# Altium schematic symbol library IC_Power.SchLib: 57 symbols
Pins are listed as number, name and electrical type; pins without a type are passive.

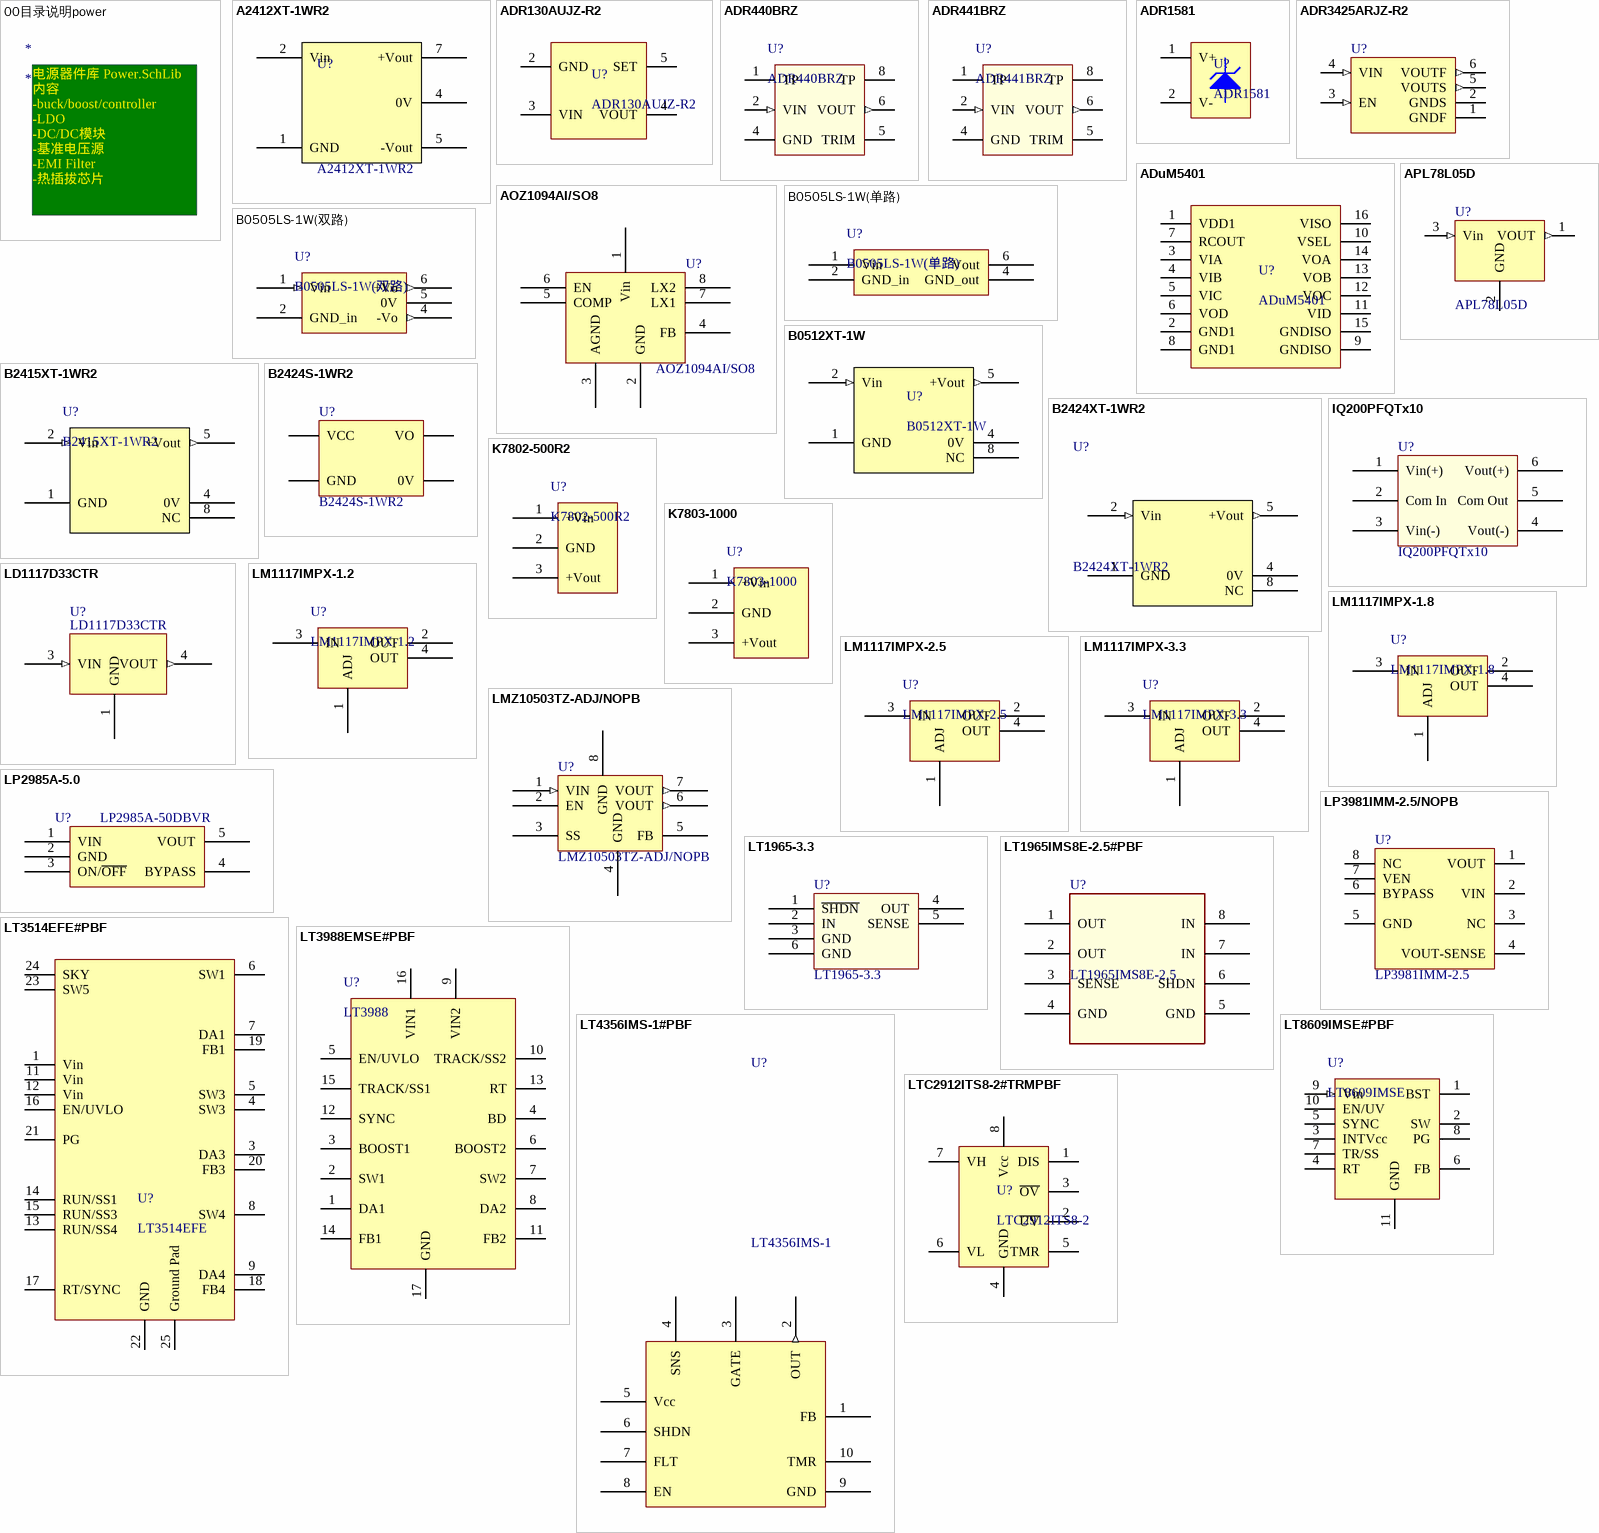
[diagram p0: symbols 00目录说明power to LTC2912ITS8-2#TRMPBF]

## 00目录说明power
designator *
text: 电源器件库 Power.SchLib / 内容 / -buck/boost/controller / -LDO / -DC/DC模块 / -基准电压源 / -EMI Filter / -热插拔芯片 /

## A2412XT-1WR2
designator U?
24V-12VDC/DC, Isolated, UNregulated, 1W; Manufacturer: MORNSUN; Name: DC/DC电源模块; Ordering NO.: A2412XT-1WR2
footprint SPM6/2.54
pins: 1 GND, 2 Vin, 4 0V, 5 -Vout, 7 +Vout

## ADR130AUJZ-R2
designator U?
Precision Series Sub-Band Gap Voltage Reference; Manufacturer: ADI; Name: 基准电压源; Note: 当SET引脚接VOUT引脚时，输出0.5V。当SET引脚接GND引脚时，输出1V; Ordering No.: ADR130AUJZ-R2
footprint SOT23-6 (SOT-23/SC-74A; 5 Leads; Body 3.1 x 3 mm, inc. leads (LxW max))
pins: 2 GND, 3 VIN, 4 VOUT, 5 SET

## ADR440BRZ
designator U?
超低噪声LDO XFET 基准电压源，具有吸电流和源电流能力; Manufacturer: ADI; Name: 基准电压源; Tips: 要求输出电压为2.048V~5V的都可以选择44X系列; Ordering NO.: ADR440BRZ
footprint SO8/1.27_4.9*3.9 (SOIC, 8-Leads, Body 4.9x3.9mm, Pitch 1.27mm,)
pins: 1 TP, 2 VIN (in), 4 GND (power), 5 TRIM, 6 VOUT (out), 8 TP

## ADR441BRZ
designator U?
Ultralow Noise,LDO XFET Voltage Reference with Current Sink and Source; Manufacturer: ADI; Name: 基准电压源; Ordering NO.: ADR441BRZ
footprint SO8/1.27_4.9*3.9 (SOIC, 8-Leads, Body 4.9x3.9mm, Pitch 1.27mm,)
pins: 1 TP, 2 VIN (in), 4 GND (power), 5 TRIM, 6 VOUT (out), 8 TP

## ADR1581
designator U?
1.25V Micropower,Precision Shunt Volatge Refence; Manufacturer: ADI; Name: 基准电压源; Ordering NO.: ADR1581ARTZ-R2; Initial Output Error: 10mV; Temperature Coefficient: 100ppm/℃
footprint SOT23-3 (SOT23, 3-Leads, Body 2.92x1.3mm, Pitch 0.95mm, Lead Span 2.3mm, IPC Medium Density)
pins: 1 V+, 2 V-

## ADR3425ARJZ-R2
designator U?  (value not drawn)
Micropower,High Accuracy Voltage References,Output Voltalge 2.5V; Manufacturer: ADI; Name: 基准电压源; Ordering NO.: ADR3425ARJZ-R2
footprint SOT23-6
pins: 1 GNDF (power), 2 GNDS (power), 3 EN (in), 4 VIN (in), 5 VOUTS (out), 6 VOUTF (out)

## ADuM5401
designator U?
Quad-Channel,2.5KV Isolators with Integrated DC to DC Converter; Manufacturer: ADI; Name: DC/DC电源模块; Ordering No.: ADuM5401ARWZ
footprint SO16/1.27_10.3*7.5 (SOIC_W,16-Pin Wide Body Small Outline Integrated Circuit 1.27 mm Pitch, IPC Medium Density)
pins: 1 VDD1, 2 GND1, 3 VIA, 4 VIB, 5 VIC, 6 VOD, 7 RCOUT, 8 GND1, 9 GNDISO, 10 VSEL, 11 VID, 12 VOC, 13 VOB, 14 VOA, 15 GNDISO, 16 VISO

## AOZ1094AI/SO8
designator U?
DC/DC控制器3.00rmb/1pcs; Manufacturer: AOZ; 物料型号说明: SO8工业级; Name: DC/DC控制器BUCK; Price_Date: 2011-07; Ordering NO.: AOZ1094AI; Price: 2.5
footprint SO8/1.27_4.9*3.9 (SOIC, 8-Leads, Body 4.9x3.9mm, Pitch 1.27mm,)
pins: 1 Vin, 2 GND, 3 AGND, 4 FB, 5 COMP, 6 EN, 7 LX1, 8 LX2

## APL78L05D
designator U?
Three-Terminal Low Current Positive Voltage Regulator, Max Input Voltage:30V, Output Voltage:5V, 100mA; Manufacturer: ANPEC; Name: LDO; Ordering NO.: APL78L05D
footprint SOT89-3 (SOT89(TO-243AA*), 3-Leads, Body 4.5x2.5mm (max), Pitch 1.60mm, Lead Span 4.1mm, IPC Medium Density)
pins: 1 VOUT (out), 2 GND (power), 3 Vin (in)

## B0505LS-1W(单路)
designator U?
隔离DC/DC厚膜IC模块定,1W,定电压输入，隔离非稳压单路输出; Manufacturer: 金升阳; Name: DC/DC电源模块; Price: 8; Ordering NO.: B0505LS-1W
footprint SIP6-4/2.54 (DC隔离模块)
pins: 1 Vin, 2 GND_in, 4 GND_out, 6 Vout

## B0505LS-1W(双路)
designator U?
隔离DC/DC厚膜IC模块定,1W,定电压输入，隔离非稳压正负双路输出; Manufacturer: 金升阳; Name: DC/DC电源模块; Price: 8; Ordering NO.: B0505LS-1W
footprint SIP6-5/2.54 (DC隔离模块，正负双路)
pins: 1 Vin (in), 2 GND_in (power), 4 -Vo (out), 5 0V (power), 6 +Vo (out)

## B0512XT-1W
designator U?
1W,FIXED INPUT:5V, ISOLATED & UNREGULATED  SINGLE OUTPUT:12V, SMD DC-DC CONVERTER; Manufacturer: 金升阳; Name: 升压模块; Ordering NO.: B0512XT-1W
footprint SPM5/2.54
pins: 1 GND (power), 2 Vin (in), 4 0V (power), 5 +Vout (out), 8 NC

## B2415XT-1WR2
designator U?
1W,Fixed input:24V,Isolated&Unregulated single output:15V; Manufacturer: 金升阳; Name: DC-DC电源模块; Ordering NO.: B2415XT-1WR2
footprint SPM5/2.54
pins: 1 GND (power), 2 Vin (in), 4 0V (power), 5 +Vout (out), 8 NC

## B2424S-1WR2
designator U?
1W，小型定电压输入，1500VDC 隔离非稳压  单输出系列DC-DC(24V-24V) 模块电源; Manufacturer: 金升阳; Name: DC/DC电源模块; Ordering NO.: B2424S-1WR2
footprint SIP4/2.54-A
pins: 1 GND, 2 VCC, 3 0V, 4 VO

## B2424XT-1WR2
designator U?
1W, FIXED INPUT:24V, ISOLATED & UNREGULATED  SINGLE OUTPUT:24V; Manufacturer: 金升阳; Name: DC/DC电源模块; Ordering NO.: B2424XT-1WR2
footprint SPM5/2.54
pins: 1 GND (power), 2 Vin (in), 4 0V (power), 5 +Vout (out), 8 NC

## IQ200PFQTx10
designator U?
EMI Filter,-200 to +200V Input,10A Output Current,70mΩ@100℃ Max DC Resistance,>80dB@250kHz Differential Attenuation; Manufacturer: SynQor; Name: EMI Filter; Ordering NO.: IQ200PFQTx10
footprint FLT6_61*39
pins: 1 Vin(+), 2 Com In, 3 Vin(-), 4 Vout(-), 5 Com Out, 6 Vout(+)

## K7802-500R2
designator U?
非隔离稳压DC/DC,24VDC转3.3VDC; Manufacturer: 金升阳; Name: DC/DC(非隔离型); Ordering NO.: K7802-500R2
footprint SIP3/2.54-A (11.6*7.55*10.16mm)
pins: 1 +Vin, 2 GND, 3 +Vout

## K7803-1000
designator U?
非隔离稳压DC/DC,24VDC转3.3VDC; Manufacturer: 金升阳; Name: DC/DC(非隔离型); Ordering NO.: K7803-1000
footprint SIP3/2.54-B
pins: 1 +Vin, 2 GND, 3 +Vout

## LD1117D33CTR
designator U?
Adjustable and Fixed Low Drop Positive Voltage Regulator; Manufacturer: ST; Ordering NO.: LD1117DT33CTR; Name: LDO
footprint TO-252AA
pins: 1 GND (power), 3 VIN (in), 4 VOUT (out)

## LM1117IMPX-1.2
designator U?
LDO,800mA; Manufacturer: NS; 物料说明: LDO,1.8V; 物料型号说明: 贴片LDO 1.8V; 物料替代型号: 国产同型,SP1117-1.8; Price: 0.01; 物料供应商: NS; Ordering NO.: LM1117IMPX-1.2; Name: LDO
footprint SOT223-4 (SOT-223/SC-73; 4 Leads; Body 6.7 x 7.3 mm, inc. leads (LxW max))
pins: 1 ADJ, 2 OUT, 3 IN, 4 OUT

## LM1117IMPX-1.8
designator U?
LDO,800mA; Manufacturer: NS; 物料说明: LDO,1.8V; 物料型号说明: 贴片LDO 1.8V; 物料替代型号: 国产同型,SP1117-1.8; Price: 0.01; 物料供应商: NS; Ordering NO.: LM1117IMPX-1.8; Name: LDO
footprint SOT223-4 (SOT-223/SC-73; 4 Leads; Body 6.7 x 7.3 mm, inc. leads (LxW max))
pins: 1 ADJ, 2 OUT, 3 IN, 4 OUT

## LM1117IMPX-2.5
designator U?
LDO,800mA; Manufacturer: NS; 物料说明: LDO,2.5V; 物料型号说明: 贴片LDO 2.5V; 物料替代型号: 国产同型,SP1117-2.5; Price: 0.01; 物料供应商: NS; Ordering NO.: LM1117IMPX-2.5; Name: LDO
footprint SOT223-4 (SOT-223/SC-73; 4 Leads; Body 6.7 x 7.3 mm, inc. leads (LxW max))
pins: 1 ADJ, 2 OUT, 3 IN, 4 OUT

## LM1117IMPX-3.3
designator U?
LDO,800mA; Manufacturer: NS; 物料说明: LDO,3.3V; 物料型号说明: 贴片LDO 3.3V; 物料替代型号: 国产同型,SP1117-3.3; Price: 0.01; 物料供应商: NS; Name: LDO; Ordering NO.: LM1117IMPX-3.3
footprint SOT223-4 (SOT-223/SC-73; 4 Leads; Body 6.7 x 7.3 mm, inc. leads (LxW max))
pins: 1 ADJ, 2 OUT, 3 IN, 4 OUT

## LMZ10503TZ-ADJ/NOPB
designator U?
LMZ10503 3A SIMPLE SWITCHER? Power Module with 5.5V Maximum Input Voltage; Manufacturer: TI; Name: DC/DC电源模块; Ordering NO.: LMZ10503TZ-ADJ/NOPB
footprint PFM7/1.27 (7-Lead)
pins: 1 VIN (in), 2 EN, 3 SS, 4 GND (power), 5 FB, 6 VOUT (out), 7 VOUT (out), 8 GND (power)

## LP2985A-5.0
designator U?, comment LP2985A-50DBVR
LDO稳压器 5V, 150mA low noise ,low dropout regulator with shutdown; Manufacturer: TI; Name: LDO; Ordering NO.: LP2985A-50DBVR
footprint SOT23-5 (SOT-23/SC-74A; 5 Leads; Body 3 x 3 mm, inc. leads (LxW max))
pins: 1 VIN, 2 GND, 3 ON/~{OFF}, 4 BYPASS, 5 VOUT

## LP3981IMM-2.5/NOPB
designator U?, comment LP3981IMM-2.5
300mA Ultra Low-Dropout CMOS Voltage Regulator; Manufacturer: TI; Ordering NO.: LP3981IMM-2.5/NOPB; Name: LDO
footprint MSOP8/0.65_3*3 (MSOP,8 PIN,Pitch 0.65mm,Body 3mmX3mm)
pins: 1 VOUT, 2 VIN, 3 NC, 4 VOUT-SENSE, 5 GND, 6 BYPASS, 7 VEN, 8 NC

## LT1965-3.3
designator U?
5-3.3V LDO电源模块, 1.1A, Low Noise,  Low Dropout Linear Regulator; Name: LDO; Manufacturer: Linear; Ordering NO.: LT1965-3.3
footprint DD-PAK-5
pins: 1 ~{SHDN}, 2 IN, 3 GND, 4 OUT, 5 SENSE, 6 GND

## LT1965IMS8E-2.5#PBF
designator U?, comment LT1965IMS8E-2.5
输出2.5V LDO电源模块, 1.1A, Low Noise,  Low Dropout Linear Regulator; Name: LDO; Ordering NO.: LT1965IMS8E-2.5#PBF; Manufacturer: Linear
footprint MSOP8/0.65_3*3 (MSOP,8 PIN,Pitch 0.65mm,Body 3mmX3mm)
pins: 1 OUT, 2 OUT, 3 SENSE, 4 GND, 5 GND, 6 SHDN, 7 IN, 8 IN

## LT3514EFE#PBF
designator U?, comment LT3514EFE
Triple Step-Down Switching  Regulator with 100%  Duty Cycle Operation; Manufacturer: Linear; Name: DC/DC(非隔离型); Ordering NO.: LT3514EFE#PBF
footprint TSSOP24/0.65_7.8*4.4-T
pins: 1 Vin, 3 DA3, 4 SW3, 5 SW3, 6 SW1, 7 DA1, 8 SW4, 9 DA4, 11 Vin, 12 Vin, 13 RUN/SS4, 14 RUN/SS1, 15 RUN/SS3, 16 EN/UVLO, 17 RT/SYNC, 18 FB4, 19 FB1, 20 FB3, 21 PG, 22 GND, 23 SW5, 24 SKY, 25 Ground Pad

## LT3988EMSE#PBF
designator U?, comment LT3988
Dual 60V Monolithic 1A  Step-Down Switching  Regulator; Manufacturer: Linear; NAME: DC/DC(非隔离型); Ordering NO.: LT3988EMSE#PBF
footprint MSOP16/0.5_4*3-T (MSOP, 16-Leads,  Exposed Die Pad,Body 4.1x3.1mm (max), Pitch 0.50mm, IPC Medium Density)
pins: 1 DA1, 2 SW1, 3 BOOST1, 4 BD, 5 EN/UVLO, 6 BOOST2, 7 SW2, 8 DA2, 9 VIN2, 10 TRACK/SS2, 11 FB2, 12 SYNC, 13 RT, 14 FB1, 15 TRACK/SS1, 16 VIN1, 17 GND

## LT4356IMS-1#PBF
designator U?, comment LT4356IMS-1
热插拔芯片4v to 80V Overvoltage Protection  Regulator and Inrush Limiter; Manufacturer: Linear; Ordering NO.: LT4356IMS-1#PBF; Name: 热插拔芯片
footprint MSOP10/0.5_3*3 (MSOP,8 PIN,Pitch 0.65mm,Body 4mmX3mm)
pins: 1 FB, 2 OUT (out), 3 GATE, 4 SNS, 5 Vcc (power), 6 SHDN, 7 FLT, 8 EN, 9 GND (power), 10 TMR

## LT8609IMSE#PBF
designator U?, comment LT8609IMSE
42V, 2A Synchronous  Step-Down Regulator with  2.5μA Quiescent Current; Manufacturer: Linear; Ordering NO.: LT8609IMSE#PBF; Name: DC/DC(非隔离型)
footprint MSOP10/0.5_3*3 -T (MSOP,10 PIN,Pitch 0.5mm,Body 3mmX3mm)
pins: 1 BST, 2 SW, 3 INTVcc, 4 RT, 5 SYNC, 6 FB, 7 TR/SS, 8 PG, 9 Vin (in), 10 EN/UV, 11 GND (power)

## LTC2912ITS8-2#TRMPBF
designator U?, comment LTC2912ITS8-2
Single UV/OV  Voltage Monitor; Manufacturer: Linear; Name: 电源监视芯片; Ordering NO.: LTC2912ITS8-2#TRMPBF
footprint SOT23-8 (TSOT-23/SOT-23; 8Leads; Body 1.625 x 2.9mm)
pins: 1 DIS (power), 2 ~{UV}, 3 ~{OV}, 4 GND (power), 5 TMR, 6 VL, 7 VH, 8 Vcc (power)

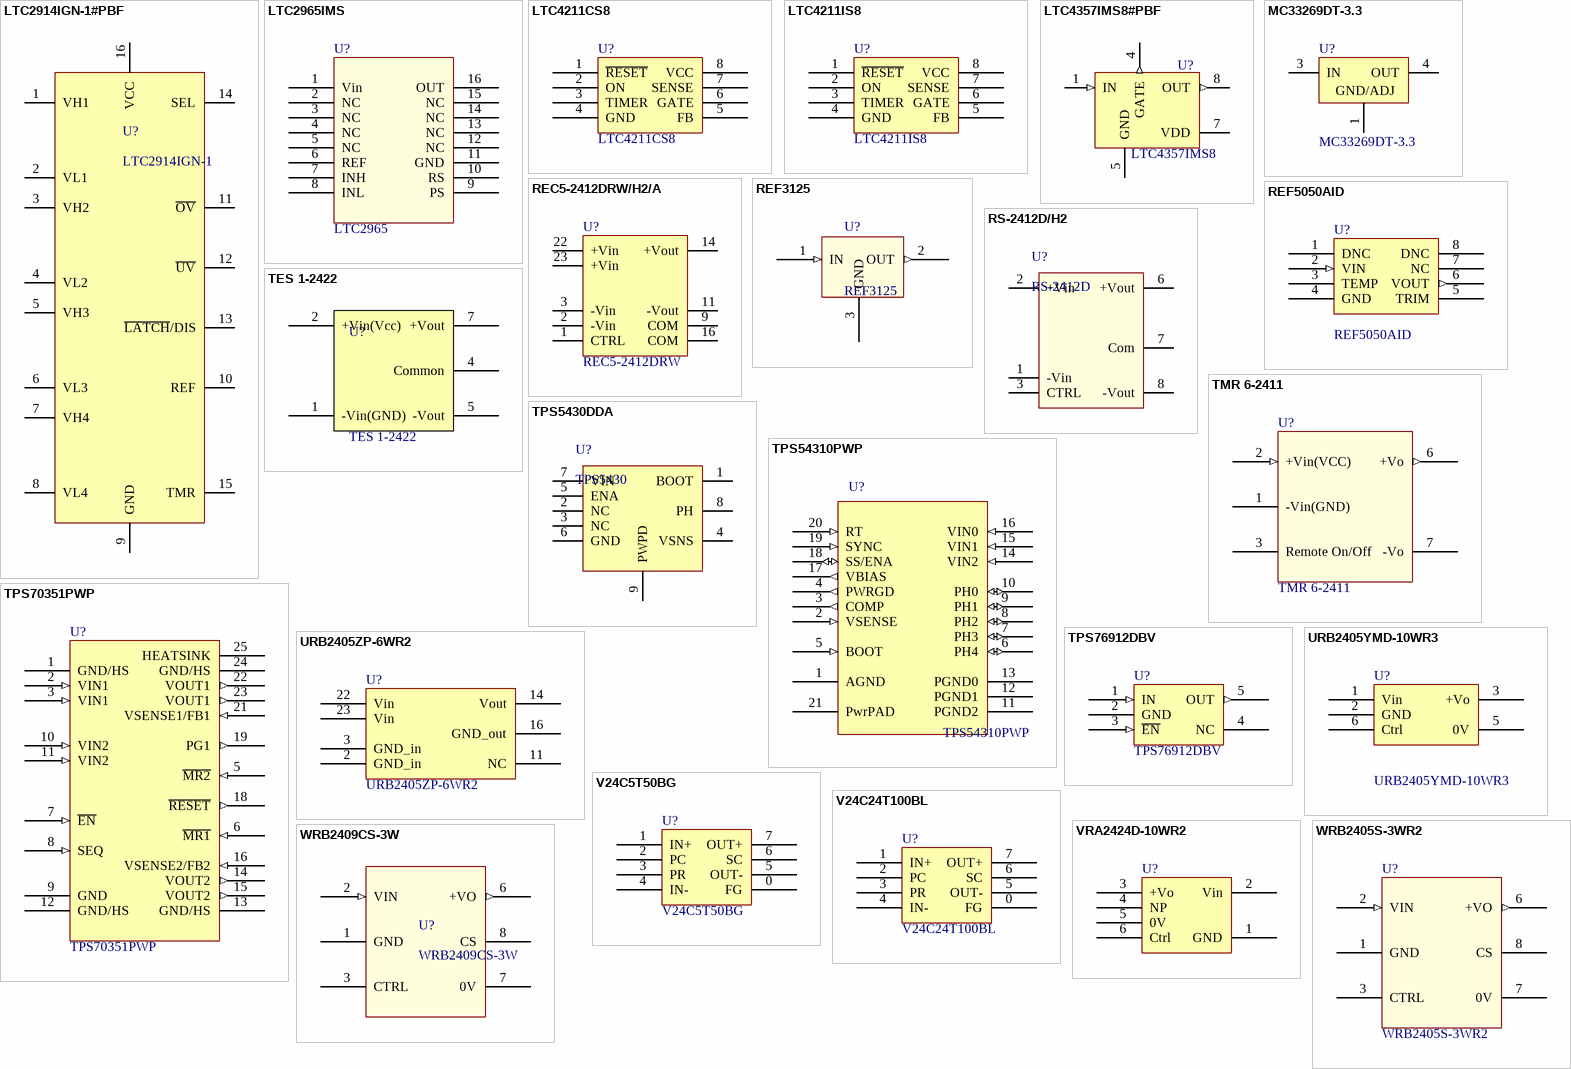
[diagram p1: symbols LTC2914IGN-1#PBF to WRB2409CS-3W]

## LTC2914IGN-1#PBF
designator U?, comment LTC2914IGN-1
Quad UV/OV Positive/Negative Voltage Monitor; Manufacturer: Linear; Name: 电源监视芯片; Ordering NO.: LTC2914IGN-1#PBF
footprint SSOP16/0.635_4.9*3.9 (SSOP; 16 Leads; Body Width 3.9 mm; Pitch 0.635 mm)
pins: 1 VH1, 2 VL1, 3 VH2, 4 VL2, 5 VH3, 6 VL3, 7 VH4, 8 VL4, 9 GND (power), 10 REF, 11 ~{OV}, 12 ~{UV}, 13 ~{LATCH}/DIS, 14 SEL, 15 TMR, 16 VCC (power)

## LTC2965IMS
designator U?, comment LTC2965
100V Micropower Single Voltage Monitor; Manufacturer: Linear; Name: 电源监视芯片; Ordering No.: LTC2965IMS
footprint MSOP16/0.5_4*3 (TSSOP, 16-Leads, Body 4.1x3.1mm (max), Pitch 0.50mm, IPC Medium Density)
pins: 1 Vin, 2 NC, 3 NC, 4 NC, 5 NC, 6 REF, 7 INH, 8 INL, 9 PS, 10 RS, 11 GND, 12 NC, 13 NC, 14 NC, 15 NC, 16 OUT

## LTC4211CS8
designator U?
热插拔控制芯片2.5~16.5v; Manufacturer: Linear; Name: 热插拔芯片; 物料替代型号: LTC4211iS8; 物料型号说明: SO8封装商业及; Price: 35; Ordering NO.: LTC4211CS8
footprint SO8/1.27_4.9*3.9 (SOIC, 8-Leads, Body 4.9x3.9mm, Pitch 1.27mm,)
pins: 1 ~{RESET}, 2 ON, 3 TIMER, 4 GND, 5 FB, 6 GATE, 7 SENSE, 8 VCC

## LTC4211IS8
designator U?
Hot Swap Controller with Multifunction Current Control; Manufacturer: Linear; Name: 热插拔芯片; Ordering NO.: LTC4211IS8
footprint SO8/1.27_4.9*3.9 (SOIC, 8-Leads, Body 4.9x3.9mm, Pitch 1.27mm,)
pins: 1 ~{RESET}, 2 ON, 3 TIMER, 4 GND (power), 5 FB, 6 GATE, 7 SENSE, 8 VCC (power)

## LTC4357IMS8#PBF
designator U?, comment LTC4357IMS8
Positive High Voltage Ideal Diode Controller; Manufacturer: Linear; Ordering NO.: LTC4357IMS8#PBF; Name: 电源管理芯片
footprint MSOP8/0.65_3*3 (MSOP,8 PIN,Pitch 0.65mm,Body 3mmX3mm)
pins: 1 IN (in), 2 NC hidden, 3 NC hidden, 4 GATE (out), 5 GND (power), 6 NC hidden, 7 VDD (power), 8 OUT (out)

## MC33269DT-3.3
designator U?
Low Dropout Positive Fixed Voltage Regulator; Manufacturer: ON; Name: LDO; Ordering NO.: MC33269DT-3.3
footprint SOT223-4 (Footprint not found)
pins: 1 GND/ADJ (power), 3 IN (power), 4 OUT (power)

## REC5-2412DRW/H2/A
designator U?, comment REC5-2412DRW
24V输入，± 12V输出，5W功率，2kV隔离; Manufacturer: RECOM; Ordering NO.: REC5-2412DRW/H2/A; Name: DC/DC电源模块; Price: 150RMB
footprint DIP24-9/2.54
pins: 1 CTRL, 2 -Vin, 3 -Vin, 9 COM, 11 -Vout, 14 +Vout, 16 COM, 22 +Vin, 23 +Vin

## REF3125
designator U?
15ppm/°C Max, 100μA, SOT23-3  SERIES VOLTAGE REFERENCE:2.5V; Manufacturer: BB; Name: 基准电压源; Ordering NO.: REF3125
footprint SOT23-3 (SOT23, 3-Leads, Body 2.9x1.3mm, Pitch 0.95mm, Lead Span 2.3mm, IPC Medium Density)
pins: 1 IN (in), 2 OUT (out), 3 GND (power)

## REF5050AID
designator U?
Low-Noise, Very Low Drift:3ppm, Precision(0.05%)  VOLTAGE REFERENCE:5V; Manufacturer: BB; Name: 基准电压源; Ordering NO.: REF5050AID
footprint SO8/1.27_4.9*3.9 (SOIC, 8-Leads, Body 4.9x3.9mm, Pitch 1.27mm,)
pins: 1 DNC, 2 VIN (in), 3 TEMP, 4 GND (power), 5 TRIM, 6 VOUT (out), 7 NC, 8 DNC

## RS-2412D/H2
designator U?, comment RS-2412D
24V输入，± 12V输出，2W功率，2kV隔离; Manufacturer: RECOM; Ordering NO.: RS-2412D/H2; Name: DC/DC电源模块; Price: 110RMB
footprint SIP8-7/2.54 - A (SIP封装,8Pin)
pins: 1 -Vin, 2 +Vin, 3 CTRL, 5 NC hidden, 6 +Vout, 7 Com, 8 -Vout

## TES 1-2422
designator U?
24V输入,± 12V输出,1W,I/O isolation 1500 VDC; Manufacturer: Tracopower; Name: DC/DC电源模块; Ordering NO.: TES 1-2422
footprint SPM10-6/2.54 (SMD,Body 16.24*8.0)
pins: 1 -Vin(GND), 2 +Vin(Vcc), 4 Common, 5 -Vout, 7 +Vout

## TMR 6-2411
designator U?
24-5VDC/DC, 6W，宽电压输入，I/O isolation 1500 VDC，单路输出，最大输出电流1200mA，DC-DC 模块电源; Manufacturer: Tracopower; Name: DC/DC电源模块; Ordering NO.: TMR 6-2411
footprint SIP8-7/2.54-A (SIP封装,8Pin,21.8mm*91.mm*11.2mm)
pins: 1 -Vin(GND) (power), 2 +Vin(VCC) (in), 3 Remote On/Off, 6 +Vo (out), 7 -Vo (power)

## TPS5430DDA
designator U?, comment TPS5430
5.5-V to 36-V, 3-A STEP-DOWN SWIFT CONVERTER; Manufacturer: TI; Ordering NO.: TPS5430DDA; Name: DC/DC(非隔离型)
footprint SO8/1.27_4.9*3.9 - T (Footprint not found)
pins: 1 BOOT, 2 NC, 3 NC, 4 VSNS, 5 ENA, 6 GND, 7 VIN, 8 PH, 9 PWPD

## TPS54310PWP
designator U?
3-V TO 6-V INPUT, 3-A OUTPUT SYNCHRONOUS-BUCK PWM  SWITCHER WITH INTEGRATED FETs (SWIFT?); Manufacturer: TI; Name: PWM电源模块; Ordering NO.: TPS54310PWP
footprint TSSOP20/0.65_6.5*4.4-T (Footprint not found)
pins: 1 AGND (power), 2 VSENSE (in), 3 COMP (out), 4 PWRGD (out), 5 BOOT (in), 6 PH4 (io), 7 PH3 (io), 8 PH2 (io), 9 PH1 (io), 10 PH0 (io), 11 PGND2 (power), 12 PGND1 (power), 13 PGND0 (power), 14 VIN2 (in), 15 VIN1 (in), 16 VIN0 (in), 17 VBIAS (out), 18 SS/ENA (io), 19 SYNC (in), 20 RT (in), 21 PwrPAD

## TPS70351PWP
designator U?
Dual-Output Low-Dropout Voltage Regulators with Power  Up Sequencing for Split Voltage DSP Systems,2.7V TO 6V INPUT; Manufacturer: TI; Name: 基准电压源; Ordering NO.: TPS70351PWP
footprint TSSOP24/0.65_7.8*4.4-T (Footprint not found)
pins: 1 GND/HS (power), 2 VIN1 (in), 3 VIN1 (in), 5 ~{MR2} (in), 6 ~{MR1} (in), 7 ~{EN} (in), 8 SEQ (in), 9 GND (power), 10 VIN2 (in), 11 VIN2 (in), 12 GND/HS (power), 13 GND/HS (power), 14 VOUT2 (out), 15 VOUT2 (out), 16 VSENSE2/FB2 (in), 18 ~{RESET} (out), 19 PG1 (out), 21 VSENSE1/FB1 (in), 22 VOUT1 (out), 23 VOUT1 (out), 24 GND/HS (power), 25 HEATSINK

## TPS76912DBV
designator U?
Ultralow-Power 100-mA Low Dropout Linear Regulators, 1.2V; Manufacturer: TI; Name: LDO; Ordering NO.: TPS76912DBV
footprint SOT23-5 (SOT-23/SC-74A; 5 Leads; Body 3 x 3 mm, inc. leads (LxW max))
pins: 1 IN (in), 2 GND (power), 3 ~{EN} (in), 4 NC, 5 OUT (out)

## URB2405YMD-10WR3
designator U?
DC/DC摸块电源，24转5V，10W，超宽电压输入，隔离稳压单路; Manufacturer: 金升阳; Name: DC/DC电源模块; Price: 20; Ordering NO.: URB2405YMD-10WR3
footprint DIP6-5/5.08 (Footprint not found)
pins: 1 Vin, 2 GND, 3 +Vo, 5 0V, 6 Ctrl

## URB2405ZP-6WR2
designator U?
DC/DC厚膜IC模块24转5V,6W,金升阳; Name: DC/DC电源模块; Price: 20; Manufacturer: 金升阳; Ordering NO.: URB2405ZP-6WR2
footprint DIP23-7/2.54 (Footprint not found)
pins: 2 GND_in, 3 GND_in, 11 NC, 14 Vout, 16 GND_out, 22 Vin, 23 Vin

## V24C5T50BG
designator U?
Vicor DC-DC Converter Module, 24V Input, 5V Output, 100W; Name: DC/DC电源模块; Manufacturer: VICOR; Ordering NO.: V24C5T50BG
footprint PM7_57.9*36.8*12.7 (Footprint not found)
pins: 0 FG (power), 1 IN+ (power), 2 PC, 3 PR, 4 IN- (power), 5 OUT- (power), 6 SC, 7 OUT+ (power)

## V24C24T100BL
designator U?
Vicor DC-DC Converter Module, 24V Input Micro Family; Name: DC/DC电源模块; Manufacturer: VICOR; Ordering NO.: V24C24T100BL
footprint PM7_57.9*36.8*12.7 (57.9X36.8X12.7mm)
pins: 0 FG (power), 1 IN+ (power), 2 PC, 3 PR, 4 IN- (power), 5 OUT- (power), 6 SC, 7 OUT+ (power)

## VRA2424D-10WR2
designator U?  (value not drawn)
20W, WIDE INPUT, ISOLATED & REGULATED   DUAL OUTPUT DC-DC CONVERTER :24V-48V; Manufacturer: 金升阳; Name: DC/DC电源模块; Ordering NO.: VRA2424D-10WR2
footprint VRA2424D-10WR2
pins: 1 GND, 2 Vin, 3 +Vo, 4 NP, 5 0V, 6 Ctrl

## WRB2405S-3WR2
designator U?
24-5VDC/DC, WRA_S - 3WR2 & WRB_S - 3WR2 系列  3W，宽电压输入，隔离稳压单路输出  DC-DC 模块电源; Manufacturer: 金升阳; Name: DC/DC电源模块; Ordering NO.: WRB2405S-3WR2
footprint SIP8-7/2.54 (8Pin超小型SIP封装)
pins: 1 GND (power), 2 VIN (in), 3 CTRL, 6 +VO (out), 7 0V (power), 8 CS

## WRB2409CS-3W
designator U?
3W,宽电压输入，隔离稳压单路:9V，SIP封装DC-DC模块电源; Manufacturer: 金升阳; Name: DC/DC电源模块; Ordering NO.: WRB2409CS-3W
footprint SIP8-7/2.54 (8Pin超小型SIP封装)
pins: 1 GND (power), 2 VIN (in), 3 CTRL, 6 +VO (out), 7 0V (power), 8 CS